# EAGLE library part EARPHONE (library Deegou_Connector)
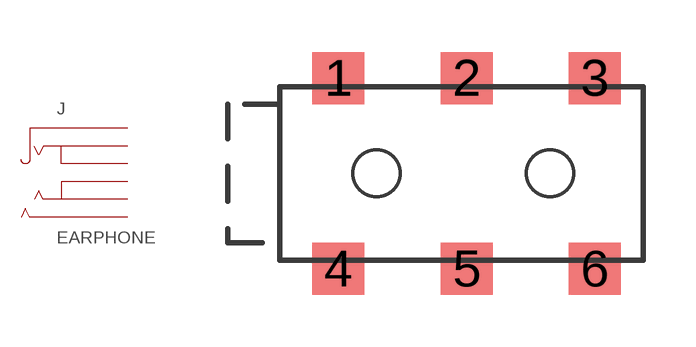
[diagram p35: symbol with the pads of HEADPHONE_2.5; footprint HEADPHONE_2.5]

Designator prefix J

## EARPHONE  [HEADPHONE_2.5]
1  1
2  2
3  3
4  4
5  5
6  6

## Footprint HEADPHONE_2.5 (pad centres in mm)
smd 1.5 x 1.5: 1 1.7,5.25; 2 5.4,5.25; 3 9.1,5.25; 4 1.7,-0.25; 5 5.4,-0.25; 6 9.1,-0.25